# EAGLE library part MGN1S1208MC-R7 (library MGN1S1208MC-R7)
DC-DC 1W SM 12-8V GAN Source: Datasheet <https://www.murata.com/products/productdata/8819021971486/KDC-MGN1.pdf?1671420703000>
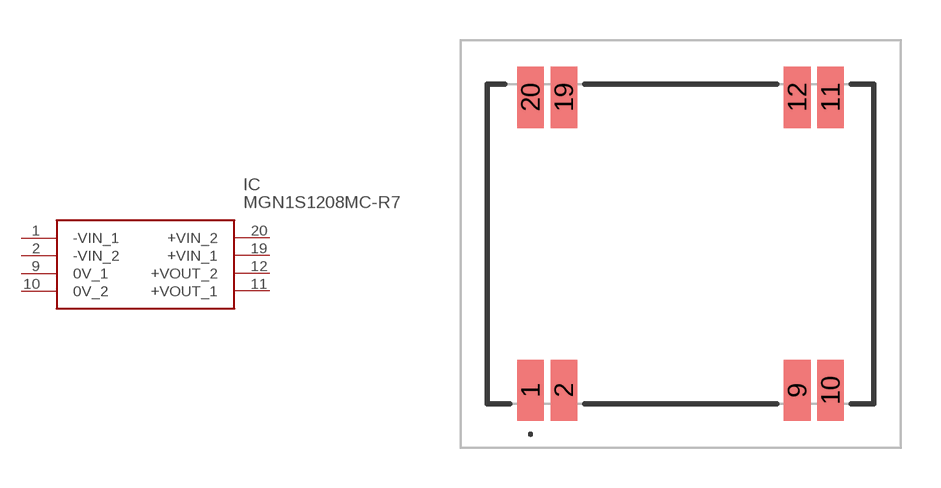
[diagram p0: symbol with the pads of MGN1S1208MCR7; footprint MGN1S1208MCR7]

Designator prefix IC

## MGN1S1208MC-R7 (Description: DC-DC 1W SM 12-8V GAN; Height: 4.7mm; Manufacturer_Name: Murata Electronics; Manufacturer_Part_Number: MGN1S1208MC-R7; Mouser_Part_Number: 580-MGN1S1208MC-R7; Mouser_Price-Stock: https://www.mouser.co.uk/ProductDetail/Murata-Power-Solutions/MGN1S1208MC-R7?qs=Jm2GQyTW%2Fbj7wXls7Lj2mQ%3D%3D)  [MGN1S1208MCR7]
1  -VIN_1
2  -VIN_2
9  0V_1
10  0V_2
11  +VOUT_1
12  +VOUT_2
19  +VIN_1
20  +VIN_2

## Footprint MGN1S1208MCR7 (pad centres in mm)
MGN1S1208MC-R7-2
smd 1 x 2.3: 1 -5.625,-5.5; 2 -4.375,-5.5; 9 4.375,-5.5; 10 5.625,-5.5; 11 5.625,5.5; 12 4.375,5.5; 19 -4.375,5.5; 20 -5.625,5.5